# Altium footprint library WS-TATV.PcbLib: 8 footprints
Each footprint in its own frame and in the unit in brackets; x right, y up, seen from the top. Pads: shape width x height; smd on the part's side, far side on the other; paste and mask are expansions set on the pad; w line width, h text height; cw(c..) or ccw(c..) is an arc to the next point about the centre after c.
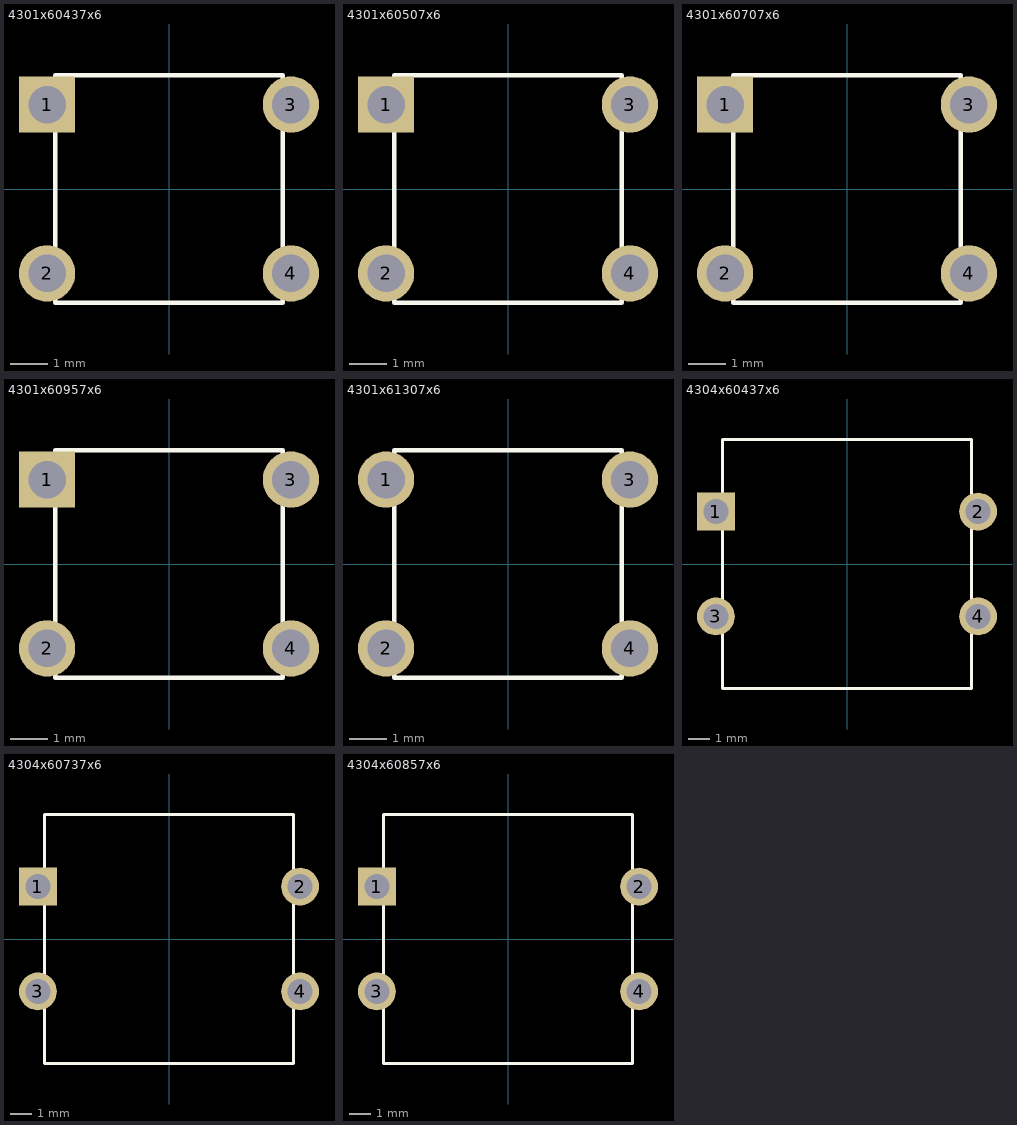
[diagram p0: the footprints below, top view; thin cyan lines are the x and y axes]

## 4301x60437x6 [mm] "6*6mm vertical type, THT, height 4.3mm, salmon actuator 360gf, Bulk"
height 4.3
pads (4):
  rect 1.5x1.5 hole 1: 1(-3.25,2.25)
  round 1.5 hole 1: 2(-3.25,-2.25) 3(3.25,2.25) 4(3.25,-2.25)
Top Overlay:
  lines w0.127: -3.036,-3.036 -3.036,3.036 3.036,3.036 3.036,-3.036 -3.036,-3.036
3D body: height 4.31, standoff -3.49, extent -3.947,-3.1 3.947,3.1

## 4301x60507x6 [mm] "6*6mm vertical type, THT, height 5.0mm, white actuator, 260gf, Bulk"
height 5
pads (4):
  rect 1.5x1.5 hole 1: 1(-3.25,2.25)
  round 1.5 hole 1: 2(-3.25,-2.25) 3(3.25,2.25) 4(3.25,-2.25)
Top Overlay:
  lines w0.127: -3.036,-3.036 -3.036,3.036 3.036,3.036 3.036,-3.036 -3.036,-3.036
3D body: height 5.01, standoff -3.49, extent -3.947,-3.1 3.947,3.1

## 4301x60707x6 [mm] "6*6mm vertical type, THT, height 7.0mm, white actuator, 260gf, Bulk"
height 7
pads (4):
  rect 1.5x1.5 hole 1: 1(-3.25,2.25)
  round 1.5 hole 1: 2(-3.25,-2.25) 3(3.25,2.25) 4(3.25,-2.25)
Top Overlay:
  lines w0.127: -3.036,-3.036 -3.036,3.036 3.036,3.036 3.036,-3.036 -3.036,-3.036
3D body: height 7.01, standoff -3.49, extent -3.947,-3.1 3.947,3.1

## 4301x60957x6 [mm] "6*6mm vertical type, THT, height 9.5mm, white actuator, 260gf, Bulk"
height 9.5
pads (4):
  rect 1.5x1.5 hole 1: 1(-3.25,2.25)
  round 1.5 hole 1: 2(-3.25,-2.25) 3(3.25,2.25) 4(3.25,-2.25)
Top Overlay:
  lines w0.127: -3.036,-3.036 -3.036,3.036 3.036,3.036 3.036,-3.036 -3.036,-3.036
3D body: height 9.51, standoff -3.49, extent -3.947,-3.1 3.947,3.1

## 4301x61307x6 [mm] "6*6mm vertical type, THT, height 13.0mm, white actuator, 260gf, Bulk"
height 13
pads (4):
  round 1.5 hole 1: 1(-3.25,2.25) 2(-3.25,-2.25) 3(3.25,2.25) 4(3.25,-2.25)
Top Overlay:
  lines w0.127: -3.036,-3.036 -3.036,3.036 3.036,3.036 3.036,-3.036 -3.036,-3.036
3D body: height 13.01, standoff -3.49, extent -3.947,-3.1 3.947,3.1

## 4304x60437x6 [mm] "12*12mm vertical type,THT,  height 4.3mm, salmon actuator, 360gf, Bulk"
height 4.3
pads (4):
  rect 1.8x1.8 hole 1.2: 1(-6.25,2.5)
  round 1.8 hole 1.2: 2(6.25,2.5) 3(-6.25,-2.5) 4(6.25,-2.5)
Top Overlay:
  lines w0.127: -5.937,-5.937 5.937,-5.937 5.937,5.937 -5.937,5.937 -5.937,-5.937
3D body: height 4.4, standoff -3.4, extent -6.985,-6 6.986,6

## 4304x60737x6 [mm] "12*12mm vertical type,THT,  height 7.3mm, square salmon actuator, 360gf, Bulk"
height 7.3
pads (4):
  rect 1.8x1.8 hole 1.2: 1(-6.25,2.5)
  round 1.8 hole 1.2: 2(6.25,2.5) 3(-6.25,-2.5) 4(6.25,-2.5)
Top Overlay:
  lines w0.127: -5.937,-5.937 5.937,-5.937 5.937,5.937 -5.937,5.937 -5.937,-5.937
3D body: height 7.4, standoff -3.4, extent -6.985,-6 6.986,6

## 4304x60857x6 [mm] "12*12mm vertical type,THT,  height 8.5mm, salmon actuator, 360gf, Bulk"
height 8.5
pads (4):
  rect 1.8x1.8 hole 1.2: 1(-6.25,2.5)
  round 1.8 hole 1.2: 2(6.25,2.5) 3(-6.25,-2.5) 4(6.25,-2.5)
Top Overlay:
  lines w0.127: -5.937,-5.937 5.937,-5.937 5.937,5.937 -5.937,5.937 -5.937,-5.937
3D body: height 8.6, standoff -3.4, extent -6.985,-6 6.986,6